# Altium schematic symbol library rf.SchLib: 2 symbols
Pins are listed as number, name and electrical type; pins without a type are passive.

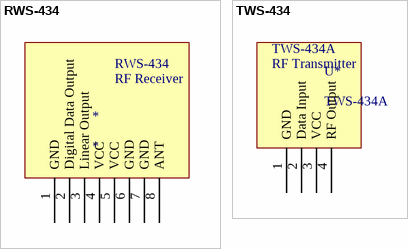
[diagram p0: symbols RWS-434 to TWS-434]

## RWS-434
designator *
pins: 1 GND, 2 Digital Data Output, 3 Linear Output, 4 VCC, 5 VCC, 6 GND, 7 GND, 8 ANT
text: RF Receiver

## TWS-434
designator U*, comment TWS-434A
pins: 1 GND, 2 Data Input, 3 VCC, 4 RF Output
text: RF Transmitter